# Altium footprint library PCB1.PcbLib: 16 footprints
Each footprint in its own frame and in the unit in brackets; x right, y up, seen from the top. Pads: shape width x height; smd on the part's side, far side on the other; paste and mask are expansions set on the pad; w line width, h text height; cw(c..) or ccw(c..) is an arc to the next point about the centre after c.
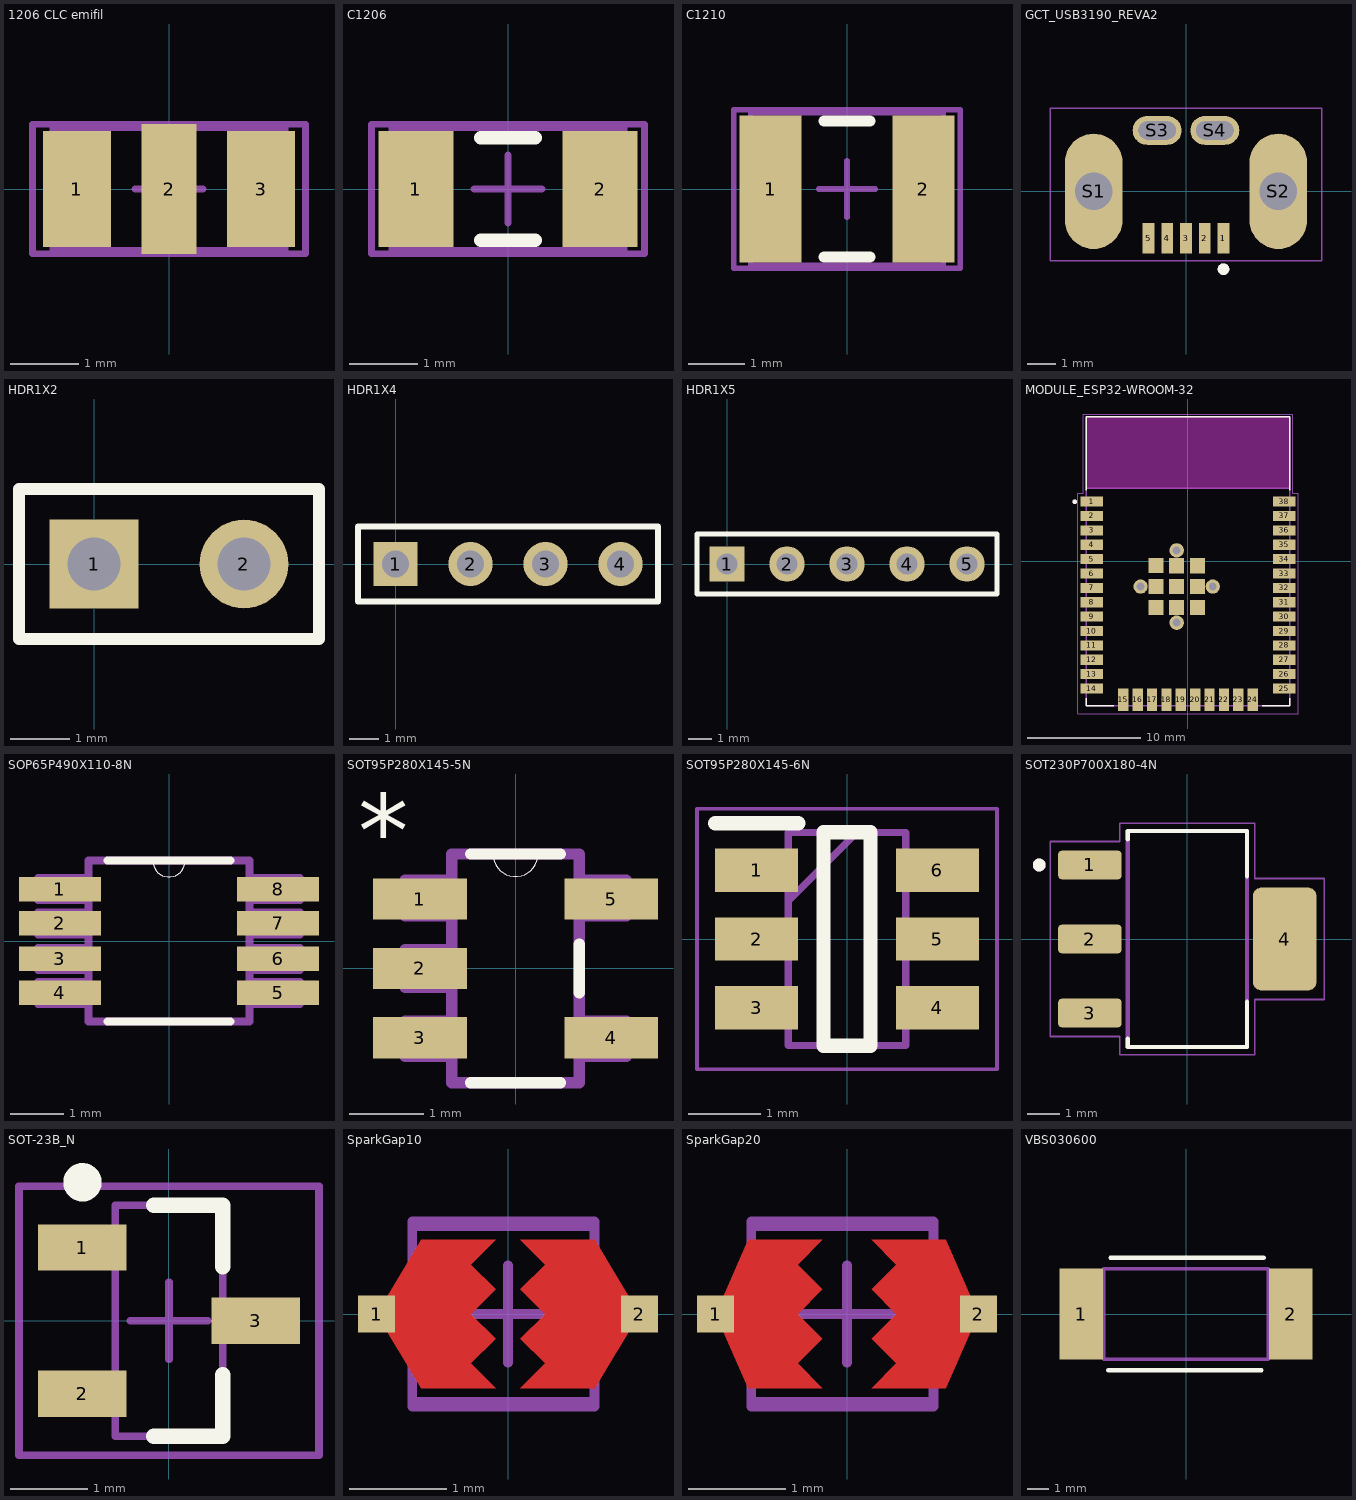
[diagram p0: the footprints below, top view; thin cyan lines are the x and y axes]

## 1206 CLC emifil [mm] "1206 shape 3 pin CLC EMIFIL chip, e.g. NFW31SP series"
pads (3):
  rect 1x1.7 smd: 1(-1.35,0) 3(1.35,0)
  rect 0.8x1.9 smd: 2(0,0)
Mechanical 13:
  lines w0.1: -1.7,-0.9 -1.7,0.9 1.7,0.9 1.7,-0.9 -1.7,-0.9
Mechanical 15:
  lines w0.1: -0.5,0 0.5,0 ; 0,-0.5 0,0.5 ; -2,-0.95 -2,0.95 2,0.95 2,-0.95 -2,-0.95
3D body: height 2, standoff 0, extent -1.7,-0.9 1.7,0.9

## C1206 [mm]
pads (2):
  rect 1.1x1.7 smd: 1(-1.35,0) 2(1.35,0)
Top Overlay:
  lines w0.2: -0.4,-0.75 0.4,-0.75 ; -0.4,0.75 0.4,0.75
Mechanical 13:
  lines w0.1: -1.7,-0.9 -1.7,0.9 1.7,0.9 1.7,-0.9 -1.7,-0.9
Mechanical 15:
  lines w0.1: -0.5,0 0.5,0 ; 0,-0.5 0,0.5 ; -2,-0.95 -2,0.95 2,0.95 2,-0.95 -2,-0.95
3D body: height 1.3, standoff 0, extent -1.7,-0.9 1.7,0.9

## C1210 [mm]
pads (2):
  rect 1.1x2.6 smd: 1(-1.35,0) 2(1.35,0)
Top Overlay:
  lines w0.2: -0.4,-1.2 0.4,-1.2 ; -0.4,1.2 0.4,1.2
Mechanical 13:
  lines w0.1: -1.7,-1.35 -1.7,1.35 1.7,1.35 1.7,-1.35 -1.7,-1.35
Mechanical 15:
  lines w0.1: -0.5,0 0.5,0 ; 0,-0.5 0,0.5 ; -2,-1.4 -2,1.4 2,1.4 2,-1.4 -2,-1.4
3D body: height 1.3, standoff 0, extent -1.7,-1.35 1.7,1.35

## GCT_USB3190_REVA2 [mm]
pads (9):
  rect 0.4x1.05 smd mask+0: 1(1.3,-1.625) 2(0.65,-1.625) 3(0,-1.625) 4(-0.65,-1.625) 5(-1.3,-1.625)
  oval 2x4 hole 1.3: S1(-3.2,0) S2(3.2,0)
  oval 1.7x1 hole 0.64 slot 1.3 at 0 deg: S3(-1,2.11) S4(1,2.11)
Top Overlay:
  circle w0.2: c1.3,-2.7 r0.1
Top Solder:
  region: -1.1,-2.15 -1.5,-2.15 -1.5,-1.1 -1.1,-1.1
  region: -0.45,-2.15 -0.85,-2.15 -0.85,-1.1 -0.45,-1.1
  region: 1.5,-2.15 1.1,-2.15 1.1,-1.1 1.5,-1.1
  region: 0.85,-2.15 0.45,-2.15 0.45,-1.1 0.85,-1.1
  region: 0.2,-2.15 -0.2,-2.15 -0.2,-1.1 0.2,-1.1
Mechanical 13:
  circle w0.2: c1.3,-2.7 r0.1
Mechanical 15:
  lines w0.05: -4.7,-2.4 4.7,-2.4 4.7,2.88 -4.7,2.88 -4.7,-2.4

## HDR1X2 [mm]
pads (2):
  rect 1.5x1.5 hole 0.9: 1(0,0)
  round 1.5 hole 0.9: 2(2.54,0)
Top Overlay:
  lines w0.2: -1.27,-1.27 -1.27,1.27 3.81,1.27 3.81,-1.27 -1.27,-1.27

## HDR1X4 [mm]
pads (4):
  rect 1.5x1.5 hole 0.9: 1(0,0)
  round 1.5 hole 0.9: 2(2.54,0) 3(5.08,0) 4(7.62,0)
Top Overlay:
  lines w0.2: -1.27,-1.27 8.89,-1.27 8.89,1.27 -1.27,1.27 -1.27,-1.27

## HDR1X5 [mm]
pads (5):
  rect 1.5x1.5 hole 0.9: 1(0,0)
  round 1.5 hole 0.9: 2(2.54,0) 3(5.08,0) 4(7.62,0) 5(10.16,0)
Top Overlay:
  lines w0.2: -1.27,-1.27 11.43,-1.27 11.43,1.27 -1.27,1.27 -1.27,-1.27

## MODULE_ESP32-WROOM-32 [mm]
pads (51):
  rect 2x0.9 smd: 1(-8.5,5.26) 2(-8.5,3.99) 3(-8.5,2.72) 4(-8.5,1.45) 5(-8.5,0.18) 6(-8.5,-1.09) 7(-8.5,-2.36) 8(-8.5,-3.63) 9(-8.5,-4.9) 10(-8.5,-6.17) 11(-8.5,-7.44) 12(-8.5,-8.71) 13(-8.5,-9.98) 14(-8.5,-11.25) 25(8.5,-11.25) 26(8.5,-9.98) 27(8.5,-8.71) 28(8.5,-7.44) 29(8.5,-6.17) 30(8.5,-4.9) 31(8.5,-3.63) 32(8.5,-2.36) 33(8.5,-1.09) 34(8.5,0.18) 35(8.5,1.45) 36(8.5,2.72) 37(8.5,3.99) 38(8.5,5.26)
  rect 0.9x2 smd: 15(-5.715,-12.25) 16(-4.445,-12.25) 17(-3.175,-12.25) 18(-1.905,-12.25) 19(-0.635,-12.25) 20(0.635,-12.25) 21(1.905,-12.25) 22(3.175,-12.25) 23(4.445,-12.25) 24(5.715,-12.25)
  rect 1.33x1.33 smd: 39_1(-2.835,-0.381) 39_2(-1,-0.405) 39_3(0.835,-0.405) 39_4(-2.835,-2.24) 39_5(-1,-2.24) 39_6(0.835,-2.24) 39_7(-2.835,-4.075) 39_8(-1,-4.075) 39_9(0.835,-4.075)
  round 1.27 hole 0.7: 39_10(-4.191,-2.24) 39_10(-1,-5.431) 39_10(-1,0.951) 39_10(2.191,-2.24)
Top Overlay:
  circle w0.2: c-10,5.25 r0.1
  lines w0.127: -9,-12.1 -9,-12.75 -6.55,-12.75 ; -9,6.25 -9,12.75 9,12.75 9,6.25 ; 6.55,-12.75 9,-12.75 9,-12.1
Keep-Out Layer:
  region: 9,6.45 -9,6.45 -9,12.75 9,12.75
  region: 9,6.45 -9,6.45 -9,12.75 9,12.75
Mechanical 13:
  circle w0.2: c-10,5.25 r0.1
  lines w0.127: -9,6.45 -9,-12.75 9,-12.75 9,6.45 ; -9,6.45 -9,12.75 9,12.75 9,6.45 ; -9,6.45 9,6.45
  text "ANTENNA" at -6,9 h1
Mechanical 15:
  lines w0.05: -9.75,-13.5 9.75,-13.5 9.75,6 9.25,6 9.25,13 -9.25,13 -9.25,6 -9.75,6 -9.75,-13.5

## SOP65P490X110-8N [mil]
pads (8):
  rect 60x18 smd: 1(-80,38) 2(-80,13) 3(-80,-13) 4(-80,-38) 5(80,-38) 6(80,-13) 7(80,13) 8(80,38)
Top Overlay:
  lines w0: -12,59 ccw(c0,59) 12,59
  lines w6: -45,-59 45,-59 ; -45,59 -12,59 12,59 45,59
Mechanical 13:
  lines w0: -12,59 ccw(c0,59) 12,59
  lines w6: -96,-46 -96,-30 -59,-30 -59,-46 -96,-46 ; -96,-21 -96,-5 -59,-5 -59,-21 -96,-21 ; -96,5 -96,21 -59,21 -59,5 -96,5 ; -96,30 -96,46 -59,46 -59,30 -96,30 ; -59,-59 59,-59 59,59 12,59 -12,59 -59,59 -59,-59 ; 59,-46 59,-30 96,-30 96,-46 59,-46 ; 59,-21 59,-5 96,-5 96,-21 59,-21 ; 59,5 59,21 96,21 96,5 59,5 ; 59,30 59,46 96,46 96,30 59,30

## SOT95P280X145-5N [mil]
pads (5):
  rect 50x22 smd: 1(-51,37) 2(-51,0) 3(-51,-37) 4(51,-37) 5(51,37)
Top Overlay:
  lines w0: -12,61 ccw(c0,61) 12,61
  lines w6: -24,-61 24,-61 ; -24,61 -12,61 12,61 24,61 ; 34,-13 34,13
  text "*" at -84,54 h39.37
Mechanical 13:
  lines w0: -12,61 ccw(c0,61) 12,61
  lines w6: -34,-47 -59,-47 -59,-28 -34,-28 ; -34,-47 -34,-28 ; -34,-47 -34,-61 34,-61 34,-47 ; -34,-28 -34,-10 ; -34,-10 -59,-10 -59,10 -34,10 ; -34,-10 -34,10 ; -34,10 -34,28 ; -34,28 -59,28 -59,47 -34,47 ; -34,28 -34,47 ; -34,47 -34,61 -12,61 12,61 34,61 34,47 ; 34,-47 59,-47 59,-28 34,-28 ; 34,-47 34,-28 ; 34,-28 34,28 ; 34,28 59,28 59,47 34,47 ; 34,28 34,47
  text "*" at -84,54 h39.37

## SOT95P280X145-6N [mm]
pads (6):
  rect 1.15x0.6 smd: 1(-1.25,0.95) 2(-1.25,0) 3(-1.25,-0.95) 4(1.25,-0.95) 5(1.25,0) 6(1.25,0.95)
Top Overlay:
  lines w0.2: -1.825,1.6 -0.675,1.6 ; -0.325,-1.475 0.325,-1.475 0.325,1.475 -0.325,1.475 -0.325,-1.475
Mechanical 13:
  lines w0.05: -2.075,-1.8 2.075,-1.8 2.075,1.8 -2.075,1.8 -2.075,-1.8
  lines w0.1: -0.812,0.525 0.138,1.475 ; -0.812,-1.475 0.812,-1.475 0.812,1.475 -0.812,1.475 -0.812,-1.475

## SOT230P700X180-4N [mm]
pads (4):
  rrect25% 1.97x0.89 smd: 1(-3.025,2.3) 2(-3.025,0) 3(-3.025,-2.3)
  rrect25% 1.97x3.19 smd: 4(3.025,0)
Top Overlay:
  circle w0.2: c-4.6,2.3 r0.1
  lines w0.127: -1.85,-3.1 -1.85,-3.35 1.85,-3.35 1.85,-1.95 ; -1.85,3.1 -1.85,3.35 1.85,3.35 1.85,1.95
Mechanical 13:
  circle w0.2: c-4.6,2.3 r0.1
  lines w0.127: -1.85,-3.35 -1.85,3.35 1.85,3.35 1.85,-3.35 -1.85,-3.35
Mechanical 15:
  lines w0.05: -4.26,-3.03 -2.1,-3.03 -2.1,-3.6 2.1,-3.6 2.1,-1.88 4.26,-1.88 4.26,1.88 2.1,1.88 2.1,3.6 -2.1,3.6 -2.1,3.03 -4.26,3.03 -4.26,-3.03

## SOT-23B_N [mm]
pads (3):
  rect 1.15x0.6 smd: 1(-1.125,0.95) 2(-1.125,-0.95) 3(1.125,0)
Top Overlay:
  circle w0.25: c-1.125,1.8 r0.125
  lines w0.2: -0.2,-1.5 0.7,-1.5 0.7,-0.7 ; -0.2,1.5 0.7,1.5 0.7,0.7
Mechanical 13:
  lines w0.1: -0.7,-1.5 -0.7,1.5 0.7,1.5 0.7,-1.5 -0.7,-1.5
Mechanical 15:
  lines w0.1: -0.5,0 0.5,0 ; 0,-0.5 0,0.5 ; -1.95,-1.75 -1.95,1.75 1.95,1.75 1.95,-1.75 -1.95,-1.75
3D body: height 1.14, standoff 0, extent -0.7,-1.5 0.7,1.5

## SparkGap10 [mil]
pads (2):
  rect 15x15 smd: 1(-53.15,0) 2(53.15,0)
Top Layer:
  region: -35,30 -5,30 -15,20 -5,10 -15,0 -5,-10 -15,-20 -5,-30 -35,-30 -53.15,0
  region: 35,-30 5,-30 15,-20 5,-10 15,0 5,10 15,20 5,30 35,30 53.15,0
Top Solder:
  rectangle: -20,-35 20,35
Mechanical 13:
  lines w3.94: -38.74,-35.43 35,-35.43 35,35.43 -38.74,35.43 -38.74,-35.43
Mechanical 15:
  lines w3.94: -19.68,0 19.68,0 ; 0,-19.68 0,19.69 ; -38.74,-37.4 35,-37.4 35,37.4 14.03,37.4 -38.74,37.4 -38.74,-18.7 -38.74,-37.4
3D body: height 51.18, standoff 0, extent -38.74,-35.43 35,35.43

## SparkGap20 [mil]
pads (2):
  rect 15x15 smd: 1(-53.15,0) 2(53.15,0)
Top Layer:
  region: 40,-30 10,-30 20,-20 10,-10 20,0 10,10 20,20 10,30 40,30 53.15,0
  region: -40,30 -10,30 -20,20 -10,10 -20,0 -10,-10 -20,-20 -10,-30 -40,-30 -53.15,0
Top Solder:
  rectangle: -20,-35 20,35
Mechanical 13:
  lines w3.94: -38.74,-35.43 -38.74,35.43 35,35.43 35,-35.43 -38.74,-35.43
Mechanical 15:
  lines w3.94: -19.68,0 19.68,0 ; 0,-19.68 0,19.69 ; -38.74,-37.4 -38.74,-18.7 -38.74,37.4 14.03,37.4 35,37.4 35,-37.4 -38.74,-37.4
3D body: height 51.18, standoff 0, extent -38.74,-35.43 35,35.43

## VBS030600 [mm]
pads (2):
  rect 2x4.2 smd: 1(-4.85,0) 2(4.85,0)
Top Overlay:
  lines w0.2: -3.6,-2.6 3.5,-2.6 ; -3.5,2.6 3.6,2.6
Mechanical 13:
  lines w0.15: -3.81,-2.1 -3.81,2.1 3.81,2.1 3.81,-2.1 -3.81,-2.1